# Altium schematic symbol library ic01_powersupply.schlib: 1 symbol
Pins are listed as number, name and electrical type; pins without a type are passive.

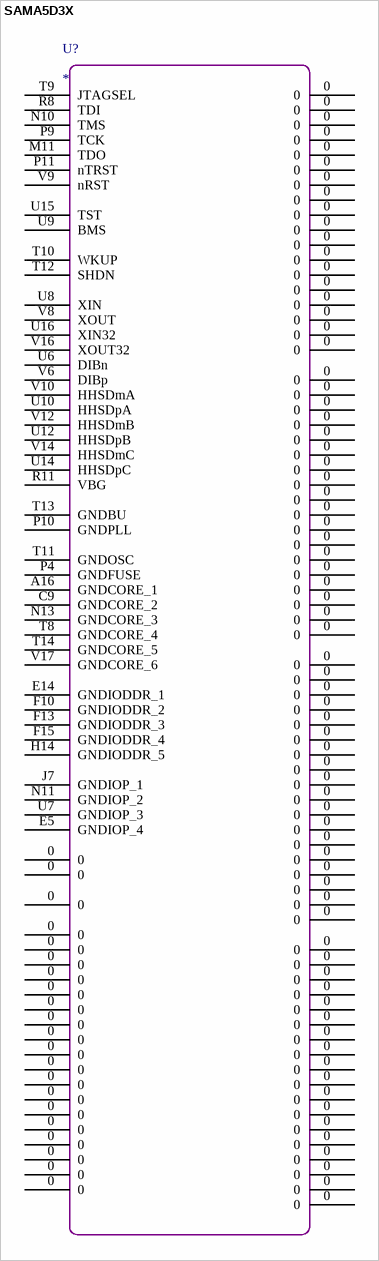
[diagram p0: symbol SAMA5D3X]

## SAMA5D3X
designator U?
IC, MCU, Cortex-A5, 532MHz; VendorPartNumber: ATSAMA5D36A-CN; LocalPartNumber: SAMA5D3X; Vendor: Atmel; Value: SAMA5D36; EngineerName: Shyu Lee (Xu Li); EngineerEmail: shyu.lee@gmail.com; Publisher: MiniLab; Version: 1.0; VersionDate: 01-06-2014
footprint LFBGA-324 (324-ball Low Profile Fine Pitch Ball Grid Array)
pins: 0, 0, 0, 0, 0, 0, 0, 0, 0, 0, 0, 0, 0, 0, 0, 0, 0, 0, 0, 0, 0, 0, 0, 0, 0, 0, 0, 0, 0, 0, 0, 0, 0, 0, 0, 0, 0, 0, 0, 0, 0, 0, 0, 0, 0, 0, 0, 0, 0, 0, 0, 0, 0, 0, 0, 0, 0, 0, 0, 0, 0, 0, 0, 0, 0, 0, 0, 0, 0, 0, 0, 0, 0, 0, 0, 0, 0, 0, 0, 0, 0, 0, 0, 0, 0, 0, 0, 0, 0, 0, 0, 0, 0, A16 GNDCORE_1, C9 GNDCORE_2, E5 GNDIOP_4, E14 GNDIODDR_1, F10 GNDIODDR_2, F13 GNDIODDR_3, F15 GNDIODDR_4, H14 GNDIODDR_5, J7 GNDIOP_1, M11 TDO, N10 TMS, N11 GNDIOP_2, N13 GNDCORE_3, P4 GNDFUSE, P9 TCK, P10 GNDPLL, P11 nTRST, R8 TDI, R11 VBG, T8 GNDCORE_4, T9 JTAGSEL, T10 WKUP, T11 GNDOSC, T12 SHDN, T13 GNDBU, T14 GNDCORE_5, U6 DIBn, U7 GNDIOP_3, U8 XIN, U9 BMS, U10 HHSDpA, U12 HHSDpB, U14 HHSDpC, U15 TST, U16 XIN32, V6 DIBp, V8 XOUT, V9 nRST, V10 HHSDmA, V12 HHSDmB, V14 HHSDmC, V16 XOUT32, V17 GNDCORE_6